# Altium integrated library Altium_WE-CBA (rev22d).IntLib: 88 symbols (part 2 of 2)
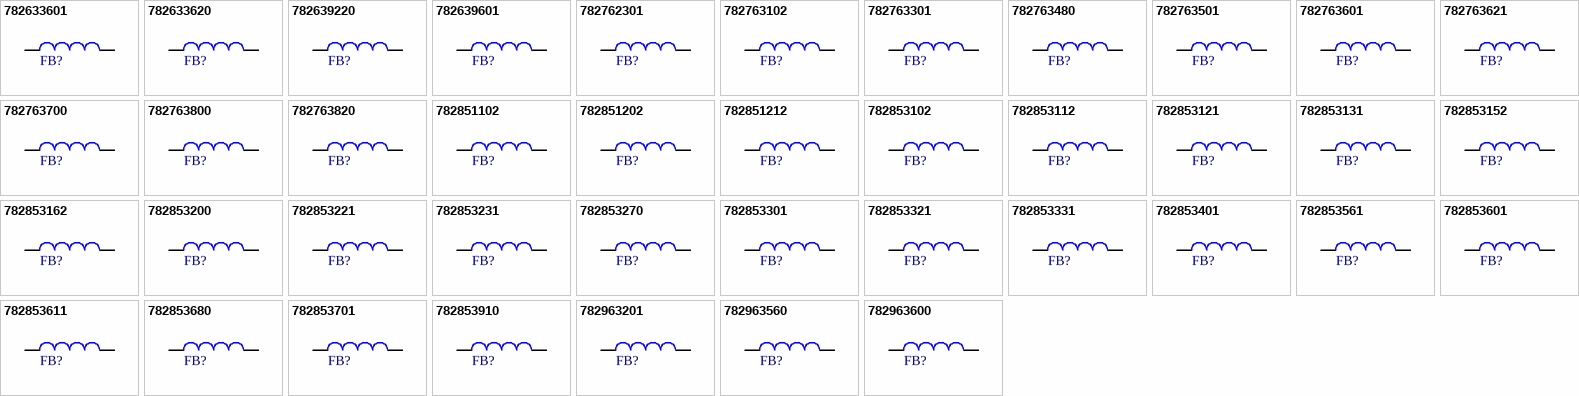
[diagram p3: symbols 782633601 to 782963600]

## 782851102
designator FB?, comment 1000Ohm  (value not drawn)
WE-CBA SMT EMI Suppression Ferrite Bead, size 0805, 1000Ohm, 0.3A; Manufacturer Part Number: 782851102; Manufacturer: Wurth Elektronik; Case/Size Code: 0805; DC Resistance Max: 0.35Ohm; Impedance Max: 1100Ohm; Type: High Speed; Category: Ferrites for PCB Assembly; Match Code: WE-CBA; ComponentLink1Description: Website Link; ComponentLink1URL: https://www.we-online.com/redexpert/article/782851102?ad; ComponentLink2Description: Datasheet Link; ComponentLink2URL: https://www.we-online.com/redexpert/spec/782851102?ad; Mount: Surface Mount; Operating Temperature Max: 125°C; Operating Temperature Min: -55°C; Packaging: Tape and Reel; Length: 2mm; Width: 1.2mm; Height: 0.9mm; Automotive: Yes; Impedance @100MHz: 1000Ohm; Rated Current: 0.3A
footprint WE-CBA_0805_L2W1.2H0.9_HF/HS/WB
simulation model 0805_782851102_1000ohm
pins: 1, 2

## 782851202
designator FB?, comment 2200Ohm  (value not drawn)
WE-CBA SMT EMI Suppression Ferrite Bead, size 0805, 2200Ohm, 0.2A; Manufacturer Part Number: 782851202; Manufacturer: Wurth Elektronik; Case/Size Code: 0805; DC Resistance Max: 0.45Ohm; Type: High Speed; Category: Ferrites for PCB Assembly; Match Code: WE-CBA; ComponentLink1Description: Website Link; ComponentLink1URL: https://www.we-online.com/redexpert/article/782851202?ad; ComponentLink2Description: Datasheet Link; ComponentLink2URL: https://www.we-online.com/redexpert/spec/782851202?ad; Mount: Surface Mount; Operating Temperature Max: 125°C; Operating Temperature Min: -55°C; Packaging: Tape and Reel; Length: 2mm; Width: 1.2mm; Height: 0.9mm; Automotive: Yes; Impedance @100MHz: 2200Ohm; Impedance Max: 2200Ohm; Rated Current: 0.2A
footprint WE-CBA_0805_L2W1.2H0.9_HF/HS/WB
simulation model 0805_782851202_2200ohm
pins: 1, 2

## 782851212
designator FB?, comment 2000Ohm  (value not drawn)
WE-CBA SMT EMI Suppression Ferrite Bead, size 0805, 2000Ohm, 0.4A; Manufacturer Part Number: 782851212; Manufacturer: Wurth Elektronik; Case/Size Code: 0805; DC Resistance Max: 0.42Ohm; Type: High Speed; Category: Ferrites for PCB Assembly; Match Code: WE-CBA; ComponentLink1Description: Website Link; ComponentLink1URL: https://www.we-online.com/redexpert/article/782851212?ad; ComponentLink2Description: Datasheet Link; ComponentLink2URL: https://www.we-online.com/redexpert/spec/782851212?ad; Mount: Surface Mount; Operating Temperature Max: 125°C; Operating Temperature Min: -55°C; Packaging: Tape and Reel; Length: 2mm; Width: 1.2mm; Height: 0.9mm; Automotive: Yes; Impedance @100MHz: 2000Ohm; Impedance Max: 2000Ohm; Rated Current: 0.4A
footprint WE-CBA_0805_L2W1.2H0.9_HF/HS/WB
simulation model 0805_782851212_2000ohm
pins: 1, 2

## 782853102
designator FB?, comment 1000Ohm  (value not drawn)
WE-CBA SMT EMI Suppression Ferrite Bead, size 0805, 1000Ohm, 1A; Manufacturer Part Number: 782853102; Manufacturer: Wurth Elektronik; Case/Size Code: 0805; DC Resistance Max: 0.3Ohm; Type: High Current; Category: Ferrites for PCB Assembly; Match Code: WE-CBA; ComponentLink1Description: Website Link; ComponentLink1URL: https://www.we-online.com/redexpert/article/782853102?ad; ComponentLink2Description: Datasheet Link; ComponentLink2URL: https://www.we-online.com/redexpert/spec/782853102?ad; Mount: Surface Mount; Operating Temperature Max: 125°C; Operating Temperature Min: -55°C; Packaging: Tape and Reel; Length: 2mm; Width: 1.2mm; Height: 0.9mm; Automotive: Yes; Impedance @100MHz: 1000Ohm; Impedance Max: 1000Ohm; Rated Current: 1A
footprint WE-CBA_0805_L2W1.2H0.9_HC
simulation model 0805_782853102_1000ohm
pins: 1, 2

## 782853112
designator FB?, comment 1100Ohm  (value not drawn)
WE-CBA SMT EMI Suppression Ferrite Bead, size 0805, 1100Ohm, 0.8A; Manufacturer Part Number: 782853112; Manufacturer: Wurth Elektronik; Case/Size Code: 0805; DC Resistance Max: 0.3Ohm; Impedance Max: 1400Ohm; Type: High Current; Category: Ferrites for PCB Assembly; Match Code: WE-CBA; ComponentLink1Description: Website Link; ComponentLink1URL: https://www.we-online.com/redexpert/article/782853112?ad; ComponentLink2Description: Datasheet Link; ComponentLink2URL: https://www.we-online.com/redexpert/spec/782853112?ad; Mount: Surface Mount; Operating Temperature Max: 125°C; Operating Temperature Min: -55°C; Packaging: Tape and Reel; Length: 2mm; Width: 1.2mm; Height: 0.9mm; Automotive: Yes; Impedance @100MHz: 1100Ohm; Rated Current: 0.8A
footprint WE-CBA_0805_L2W1.2H0.9_HC
simulation model 0805_782853112_1100ohm
pins: 1, 2

## 782853121
designator FB?, comment 120Ohm  (value not drawn)
WE-CBA SMT EMI Suppression Ferrite Bead, size 0805, 120Ohm, 2.5A; Manufacturer Part Number: 782853121; Manufacturer: Wurth Elektronik; Case/Size Code: 0805; DC Resistance Max: 0.035Ohm; Impedance Max: 180Ohm; Type: High Current; Category: Ferrites for PCB Assembly; Match Code: WE-CBA; ComponentLink1Description: Website Link; ComponentLink1URL: https://www.we-online.com/redexpert/article/782853121?ad; ComponentLink2Description: Datasheet Link; ComponentLink2URL: https://www.we-online.com/redexpert/spec/782853121?ad; Mount: Surface Mount; Operating Temperature Max: 125°C; Operating Temperature Min: -55°C; Packaging: Tape and Reel; Length: 2mm; Width: 1.2mm; Height: 0.9mm; Automotive: Yes; Impedance @100MHz: 120Ohm; Rated Current: 2.5A
footprint WE-CBA_0805_L2W1.2H0.9_HC
simulation model 0805_782853121_120ohm
pins: 1, 2

## 782853131
designator FB?, comment 120Ohm  (value not drawn)
WE-CBA SMT EMI Suppression Ferrite Bead, size 0805, 120Ohm, 3A; Manufacturer Part Number: 782853131; Manufacturer: Wurth Elektronik; Case/Size Code: 0805; DC Resistance Max: 0.03Ohm; Impedance Max: 180Ohm; Type: High Current; Category: Ferrites for PCB Assembly; Match Code: WE-CBA; ComponentLink1Description: Website Link; ComponentLink1URL: https://www.we-online.com/redexpert/article/782853131?ad; ComponentLink2Description: Datasheet Link; ComponentLink2URL: https://www.we-online.com/redexpert/spec/782853131?ad; Mount: Surface Mount; Operating Temperature Max: 125°C; Operating Temperature Min: -55°C; Packaging: Tape and Reel; Length: 2mm; Width: 1.2mm; Height: 0.9mm; Automotive: Yes; Impedance @100MHz: 120Ohm; Rated Current: 3A
footprint WE-CBA_0805_L2W1.2H0.9_HC
simulation model 0805_782853131_120ohm
pins: 1, 2

## 782853152
designator FB?, comment 1500Ohm  (value not drawn)
WE-CBA SMT EMI Suppression Ferrite Bead, size 0805, 1500Ohm, 0.7A; Manufacturer Part Number: 782853152; Manufacturer: Wurth Elektronik; Case/Size Code: 0805; DC Resistance Max: 0.35Ohm; Impedance Max: 1800Ohm; Type: High Current; Category: Ferrites for PCB Assembly; Match Code: WE-CBA; ComponentLink1Description: Website Link; ComponentLink1URL: https://www.we-online.com/redexpert/article/782853152?ad; ComponentLink2Description: Datasheet Link; ComponentLink2URL: https://www.we-online.com/redexpert/spec/782853152?ad; Mount: Surface Mount; Operating Temperature Max: 125°C; Operating Temperature Min: -55°C; Packaging: Tape and Reel; Length: 2mm; Width: 1.2mm; Height: 0.9mm; Automotive: Yes; Impedance @100MHz: 1500Ohm; Rated Current: 0.7A
footprint WE-CBA_0805_L2W1.2H0.9_HC
simulation model 0805_782853152_1500ohm
pins: 1, 2

## 782853162
designator FB?, comment 1500Ohm  (value not drawn)
WE-CBA SMT EMI Suppression Ferrite Bead, size 0805, 1500Ohm, 1A; Manufacturer Part Number: 782853162; Manufacturer: Wurth Elektronik; Case/Size Code: 0805; DC Resistance Max: 0.3Ohm; Impedance Max: 1800Ohm; Type: High Current; Category: Ferrites for PCB Assembly; Match Code: WE-CBA; ComponentLink1Description: Website Link; ComponentLink1URL: https://www.we-online.com/redexpert/article/782853162?ad; ComponentLink2Description: Datasheet Link; ComponentLink2URL: https://www.we-online.com/redexpert/spec/782853162?ad; Mount: Surface Mount; Operating Temperature Max: 125°C; Operating Temperature Min: -55°C; Packaging: Tape and Reel; Length: 2mm; Width: 1.2mm; Height: 0.9mm; Automotive: Yes; Impedance @100MHz: 1500Ohm; Rated Current: 1A
footprint WE-CBA_0805_L2W1.2H0.9_HC
simulation model 0805_782853162_1500ohm
pins: 1, 2

## 782853200
designator FB?, comment 20Ohm  (value not drawn)
WE-CBA SMT EMI Suppression Ferrite Bead, size 0805, 20Ohm, 5A; Manufacturer Part Number: 782853200; Manufacturer: Wurth Elektronik; Case/Size Code: 0805; DC Resistance Max: 0.008Ohm; Impedance Max: 35Ohm; Type: High Current; Category: Ferrites for PCB Assembly; Match Code: WE-CBA; ComponentLink1Description: Website Link; ComponentLink1URL: https://www.we-online.com/redexpert/article/782853200?ad; ComponentLink2Description: Datasheet Link; ComponentLink2URL: https://www.we-online.com/redexpert/spec/782853200?ad; Mount: Surface Mount; Operating Temperature Max: 125°C; Operating Temperature Min: -55°C; Packaging: Tape and Reel; Length: 2mm; Width: 1.2mm; Height: 0.9mm; Automotive: Yes; Impedance @100MHz: 20Ohm; Rated Current: 5A
footprint WE-CBA_0805_L2W1.2H0.9_HC
simulation model 0805_782853200_20ohm
pins: 1, 2

## 782853221
designator FB?, comment 220Ohm  (value not drawn)
WE-CBA SMT EMI Suppression Ferrite Bead, size 0805, 220Ohm, 2A; Manufacturer Part Number: 782853221; Manufacturer: Wurth Elektronik; Case/Size Code: 0805; DC Resistance Max: 0.05Ohm; Impedance Max: 290Ohm; Type: High Current; Category: Ferrites for PCB Assembly; Match Code: WE-CBA; ComponentLink1Description: Website Link; ComponentLink1URL: https://www.we-online.com/redexpert/article/782853221?ad; ComponentLink2Description: Datasheet Link; ComponentLink2URL: https://www.we-online.com/redexpert/spec/782853221?ad; Mount: Surface Mount; Operating Temperature Max: 125°C; Operating Temperature Min: -55°C; Packaging: Tape and Reel; Length: 2mm; Width: 1.2mm; Height: 0.9mm; Automotive: Yes; Impedance @100MHz: 220Ohm; Rated Current: 2A
footprint WE-CBA_0805_L2W1.2H0.9_HC
simulation model 0805_782853221_220ohm
pins: 1, 2

## 782853231
designator FB?, comment 220Ohm  (value not drawn)
WE-CBA SMT EMI Suppression Ferrite Bead, size 0805, 220Ohm, 3A; Manufacturer Part Number: 782853231; Manufacturer: Wurth Elektronik; Case/Size Code: 0805; DC Resistance Max: 0.05Ohm; Impedance Max: 330Ohm; Type: High Current; Category: Ferrites for PCB Assembly; Match Code: WE-CBA; ComponentLink1Description: Website Link; ComponentLink1URL: https://www.we-online.com/redexpert/article/782853231?ad; ComponentLink2Description: Datasheet Link; ComponentLink2URL: https://www.we-online.com/redexpert/spec/782853231?ad; Mount: Surface Mount; Operating Temperature Max: 125°C; Operating Temperature Min: -55°C; Packaging: Tape and Reel; Length: 2mm; Width: 1.2mm; Height: 0.9mm; Automotive: Yes; Impedance @100MHz: 220Ohm; Rated Current: 3A
footprint WE-CBA_0805_L2W1.2H0.9_HC
simulation model 0805_782853231_220ohm
pins: 1, 2

## 782853270
designator FB?, comment 27Ohm  (value not drawn)
WE-CBA SMT EMI Suppression Ferrite Bead, size 0805, 27Ohm, 4A; Manufacturer Part Number: 782853270; Manufacturer: Wurth Elektronik; Case/Size Code: 0805; DC Resistance Max: 0.015Ohm; Impedance Max: 45Ohm; Type: High Current; Category: Ferrites for PCB Assembly; Match Code: WE-CBA; ComponentLink1Description: Website Link; ComponentLink1URL: https://www.we-online.com/redexpert/article/782853270?ad; ComponentLink2Description: Datasheet Link; ComponentLink2URL: https://www.we-online.com/redexpert/spec/782853270?ad; Mount: Surface Mount; Operating Temperature Max: 125°C; Operating Temperature Min: -55°C; Packaging: Tape and Reel; Length: 2mm; Width: 1.2mm; Height: 0.9mm; Automotive: Yes; Impedance @100MHz: 27Ohm; Rated Current: 4A
footprint WE-CBA_0805_L2W1.2H0.9_HC
simulation model 0805_782853270_27ohm
pins: 1, 2

## 782853301
designator FB?, comment 300Ohm  (value not drawn)
WE-CBA SMT EMI Suppression Ferrite Bead, size 0805, 300Ohm, 3A; Manufacturer Part Number: 782853301; Manufacturer: Wurth Elektronik; Case/Size Code: 0805; DC Resistance Max: 0.05Ohm; Impedance Max: 350Ohm; Type: High Current; Category: Ferrites for PCB Assembly; Match Code: WE-CBA; ComponentLink1Description: Website Link; ComponentLink1URL: https://www.we-online.com/redexpert/article/782853301?ad; ComponentLink2Description: Datasheet Link; ComponentLink2URL: https://www.we-online.com/redexpert/spec/782853301?ad; Mount: Surface Mount; Operating Temperature Max: 125°C; Operating Temperature Min: -55°C; Packaging: Tape and Reel; Length: 2mm; Width: 1.2mm; Height: 0.9mm; Automotive: Yes; Impedance @100MHz: 300Ohm; Rated Current: 3A
footprint WE-CBA_0805_L2W1.2H0.9_HC
simulation model 0805_782853301_300ohm
pins: 1, 2

## 782853321
designator FB?, comment 320Ohm  (value not drawn)
WE-CBA SMT EMI Suppression Ferrite Bead, size 0805, 320Ohm, 2A; Manufacturer Part Number: 782853321; Manufacturer: Wurth Elektronik; Case/Size Code: 0805; DC Resistance Max: 0.05Ohm; Impedance Max: 370Ohm; Type: High Current; Category: Ferrites for PCB Assembly; Match Code: WE-CBA; ComponentLink1Description: Website Link; ComponentLink1URL: https://www.we-online.com/redexpert/article/782853321?ad; ComponentLink2Description: Datasheet Link; ComponentLink2URL: https://www.we-online.com/redexpert/spec/782853321?ad; Mount: Surface Mount; Operating Temperature Max: 125°C; Operating Temperature Min: -55°C; Packaging: Tape and Reel; Length: 2mm; Width: 1.2mm; Height: 0.9mm; Automotive: Yes; Impedance @100MHz: 320Ohm; Rated Current: 2A
footprint WE-CBA_0805_L2W1.2H0.9_HC
simulation model 0805_782853321_320ohm
pins: 1, 2

## 782853331
designator FB?, comment 330Ohm  (value not drawn)
WE-CBA SMT EMI Suppression Ferrite Bead, size 0805, 330Ohm, 3A; Manufacturer Part Number: 782853331; Manufacturer: Wurth Elektronik; Case/Size Code: 0805; DC Resistance Max: 0.05Ohm; Impedance Max: 375Ohm; Type: High Current; Category: Ferrites for PCB Assembly; Match Code: WE-CBA; ComponentLink1Description: Website Link; ComponentLink1URL: https://www.we-online.com/redexpert/article/782853331?ad; ComponentLink2Description: Datasheet Link; ComponentLink2URL: https://www.we-online.com/redexpert/spec/782853331?ad; Mount: Surface Mount; Operating Temperature Max: 125°C; Operating Temperature Min: -55°C; Packaging: Tape and Reel; Length: 2mm; Width: 1.2mm; Height: 0.9mm; Automotive: Yes; Impedance @100MHz: 330Ohm; Rated Current: 3A
footprint WE-CBA_0805_L2W1.2H0.9_HC
simulation model 0805_782853331_330ohm
pins: 1, 2

## 782853401
designator FB?, comment 400Ohm  (value not drawn)
WE-CBA SMT EMI Suppression Ferrite Bead, size 0805, 400Ohm, 0.3A; Manufacturer Part Number: 782853401; Manufacturer: Wurth Elektronik; Case/Size Code: 0805; DC Resistance Max: 0.3Ohm; Impedance Max: 500Ohm; Type: Wide Band; Category: Ferrites for PCB Assembly; Match Code: WE-CBA; ComponentLink1Description: Website Link; ComponentLink1URL: https://www.we-online.com/redexpert/article/782853401?ad; ComponentLink2Description: Datasheet Link; ComponentLink2URL: https://www.we-online.com/redexpert/spec/782853401?ad; Mount: Surface Mount; Operating Temperature Max: 125°C; Operating Temperature Min: -55°C; Packaging: Tape and Reel; Length: 2mm; Width: 1.2mm; Height: 0.9mm; Automotive: Yes; Impedance @100MHz: 400Ohm; Rated Current: 0.3A
footprint WE-CBA_0805_L2W1.2H0.9_HF/HS/WB
simulation model 0805_782853401_400ohm
pins: 1, 2

## 782853561
designator FB?, comment 560Ohm  (value not drawn)
WE-CBA SMT EMI Suppression Ferrite Bead, size 0805, 560Ohm, 1.5A; Manufacturer Part Number: 782853561; Manufacturer: Wurth Elektronik; Case/Size Code: 0805; DC Resistance Max: 0.1Ohm; Impedance Max: 600Ohm; Type: High Current; Category: Ferrites for PCB Assembly; Match Code: WE-CBA; ComponentLink1Description: Website Link; ComponentLink1URL: https://www.we-online.com/redexpert/article/782853561?ad; ComponentLink2Description: Datasheet Link; ComponentLink2URL: https://www.we-online.com/redexpert/spec/782853561?ad; Mount: Surface Mount; Operating Temperature Max: 125°C; Operating Temperature Min: -55°C; Packaging: Tape and Reel; Length: 2mm; Width: 1.2mm; Height: 0.9mm; Automotive: Yes; Impedance @100MHz: 560Ohm; Rated Current: 1.5A
footprint WE-CBA_0805_L2W1.2H0.9_HC
simulation model 0805_782853561_560ohm
pins: 1, 2

## 782853601
designator FB?, comment 600Ohm  (value not drawn)
WE-CBA SMT EMI Suppression Ferrite Bead, size 0805, 600Ohm, 0.5A; Manufacturer Part Number: 782853601; Manufacturer: Wurth Elektronik; Case/Size Code: 0805; DC Resistance Max: 0.3Ohm; Impedance Max: 700Ohm; Type: Wide Band; Category: Ferrites for PCB Assembly; Match Code: WE-CBA; ComponentLink1Description: Website Link; ComponentLink1URL: https://www.we-online.com/redexpert/article/782853601?ad; ComponentLink2Description: Datasheet Link; ComponentLink2URL: https://www.we-online.com/redexpert/spec/782853601?ad; Mount: Surface Mount; Operating Temperature Max: 125°C; Operating Temperature Min: -55°C; Packaging: Tape and Reel; Length: 2mm; Width: 1.2mm; Height: 0.9mm; Automotive: Yes; Impedance @100MHz: 600Ohm; Rated Current: 0.5A
footprint WE-CBA_0805_L2W1.2H0.9_HF/HS/WB
simulation model 0805_782853601_600ohm
pins: 1, 2

## 782853611
designator FB?, comment 600Ohm  (value not drawn)
WE-CBA SMT EMI Suppression Ferrite Bead, size 0805, 600Ohm, 2A; Manufacturer Part Number: 782853611; Manufacturer: Wurth Elektronik; Case/Size Code: 0805; DC Resistance Max: 0.11Ohm; Impedance Max: 700Ohm; Type: High Current; Category: Ferrites for PCB Assembly; Match Code: WE-CBA; ComponentLink1Description: Website Link; ComponentLink1URL: https://www.we-online.com/redexpert/article/782853611?ad; ComponentLink2Description: Datasheet Link; ComponentLink2URL: https://www.we-online.com/redexpert/spec/782853611?ad; Mount: Surface Mount; Operating Temperature Max: 125°C; Operating Temperature Min: -55°C; Packaging: Tape and Reel; Length: 2mm; Width: 1.2mm; Height: 0.9mm; Automotive: Yes; Impedance @100MHz: 600Ohm; Rated Current: 2A
footprint WE-CBA_0805_L2W1.2H0.9_HC
simulation model 0805_782853611_600ohm
pins: 1, 2

## 782853680
designator FB?, comment 68Ohm  (value not drawn)
WE-CBA SMT EMI Suppression Ferrite Bead, size 0805, 68Ohm, 3A; Manufacturer Part Number: 782853680; Manufacturer: Wurth Elektronik; Case/Size Code: 0805; DC Resistance Max: 0.025Ohm; Impedance Max: 110Ohm; Type: High Current; Category: Ferrites for PCB Assembly; Match Code: WE-CBA; ComponentLink1Description: Website Link; ComponentLink1URL: https://www.we-online.com/redexpert/article/782853680?ad; ComponentLink2Description: Datasheet Link; ComponentLink2URL: https://www.we-online.com/redexpert/spec/782853680?ad; Mount: Surface Mount; Operating Temperature Max: 125°C; Operating Temperature Min: -55°C; Packaging: Tape and Reel; Length: 2mm; Width: 1.2mm; Height: 0.9mm; Automotive: Yes; Impedance @100MHz: 68Ohm; Rated Current: 3A
footprint WE-CBA_0805_L2W1.2H0.9_HC
simulation model 0805_782853680_68ohm
pins: 1, 2

## 782853701
designator FB?, comment 700Ohm  (value not drawn)
WE-CBA SMT EMI Suppression Ferrite Bead, size 0805, 700Ohm, 1.5A; Manufacturer Part Number: 782853701; Manufacturer: Wurth Elektronik; Case/Size Code: 0805; DC Resistance Max: 0.1Ohm; Impedance Max: 730Ohm; Type: High Current; Category: Ferrites for PCB Assembly; Match Code: WE-CBA; ComponentLink1Description: Website Link; ComponentLink1URL: https://www.we-online.com/redexpert/article/782853701?ad; ComponentLink2Description: Datasheet Link; ComponentLink2URL: https://www.we-online.com/redexpert/spec/782853701?ad; Mount: Surface Mount; Operating Temperature Max: 125°C; Operating Temperature Min: -55°C; Packaging: Tape and Reel; Length: 2mm; Width: 1.2mm; Height: 0.9mm; Automotive: Yes; Impedance @100MHz: 700Ohm; Rated Current: 1.5A
footprint WE-CBA_0805_L2W1.2H0.9_HC
simulation model 0805_782853701_700ohm
pins: 1, 2

## 782853910
designator FB?, comment 91Ohm  (value not drawn)
WE-CBA SMT EMI Suppression Ferrite Bead, size 0805, 91Ohm, 2A; Manufacturer Part Number: 782853910; Manufacturer: Wurth Elektronik; Case/Size Code: 0805; DC Resistance Max: 0.06Ohm; Impedance Max: 105Ohm; Type: High Current; Category: Ferrites for PCB Assembly; Match Code: WE-CBA; ComponentLink1Description: Website Link; ComponentLink1URL: https://www.we-online.com/redexpert/article/782853910?ad; ComponentLink2Description: Datasheet Link; ComponentLink2URL: https://www.we-online.com/redexpert/spec/782853910?ad; Mount: Surface Mount; Operating Temperature Max: 125°C; Operating Temperature Min: -55°C; Packaging: Tape and Reel; Length: 2mm; Width: 1.2mm; Height: 0.9mm; Automotive: Yes; Impedance @100MHz: 91Ohm; Rated Current: 2A
footprint WE-CBA_0805_L2W1.2H0.9_HC
simulation model 0805_782853910_91ohm
pins: 1, 2

## 782963201
designator FB?, comment 1000Ohm  (value not drawn)
WE-CBA SMT EMI Suppression Ferrite Bead, size 1806, 1000Ohm, 1.5A; Manufacturer Part Number: 782963201; Manufacturer: Wurth Elektronik; Case/Size Code: 1806; DC Resistance Max: 0.09Ohm; Impedance Max: 1020Ohm; Type: High Current; Category: Ferrites for PCB Assembly; Match Code: WE-CBA; ComponentLink1Description: Website Link; ComponentLink1URL: https://www.we-online.com/redexpert/article/782963201?ad; ComponentLink2Description: Datasheet Link; ComponentLink2URL: https://www.we-online.com/redexpert/spec/782963201?ad; Mount: Surface Mount; Operating Temperature Max: 125°C; Operating Temperature Min: -55°C; Packaging: Tape and Reel; Length: 4.5mm; Width: 1.6mm; Height: 1.6mm; Automotive: Yes; Impedance @100MHz: 1000Ohm; Rated Current: 1.5A
footprint WE-CBA_1806_L4.5W1.6H1.6_HC
simulation model 1806_782963201_1000ohm
pins: 1, 2

## 782963560
designator FB?, comment 56Ohm  (value not drawn)
WE-CBA SMT EMI Suppression Ferrite Bead, size 1806, 56Ohm, 5A; Manufacturer Part Number: 782963560; Manufacturer: Wurth Elektronik; Case/Size Code: 1806; DC Resistance Max: 0.008Ohm; Impedance Max: 90Ohm; Type: High Current; Category: Ferrites for PCB Assembly; Match Code: WE-CBA; ComponentLink1Description: Website Link; ComponentLink1URL: https://www.we-online.com/redexpert/article/782963560?ad; ComponentLink2Description: Datasheet Link; ComponentLink2URL: https://www.we-online.com/redexpert/spec/782963560?ad; Mount: Surface Mount; Operating Temperature Max: 125°C; Operating Temperature Min: -55°C; Packaging: Tape and Reel; Length: 4.5mm; Width: 1.6mm; Height: 1.6mm; Automotive: Yes; Impedance @100MHz: 56Ohm; Rated Current: 5A
footprint WE-CBA_1806_L4.5W1.6H1.6_HC
simulation model 1806_782963560_56ohm
pins: 1, 2

## 782963600
designator FB?, comment 60Ohm  (value not drawn)
WE-CBA SMT EMI Suppression Ferrite Bead, size 1806, 60Ohm, 6A; Manufacturer Part Number: 782963600; Manufacturer: Wurth Elektronik; Case/Size Code: 1806; DC Resistance Max: 0.01Ohm; Impedance Max: 120Ohm; Type: High Current; Category: Ferrites for PCB Assembly; Match Code: WE-CBA; ComponentLink1Description: Website Link; ComponentLink1URL: https://www.we-online.com/redexpert/article/782963600?ad; ComponentLink2Description: Datasheet Link; ComponentLink2URL: https://www.we-online.com/redexpert/spec/782963600?ad; Mount: Surface Mount; Operating Temperature Max: 125°C; Operating Temperature Min: -55°C; Packaging: Tape and Reel; Length: 4.5mm; Width: 1.6mm; Height: 1.6mm; Automotive: Yes; Impedance @100MHz: 60Ohm; Rated Current: 6A
footprint WE-CBA_1806_L4.5W1.6H1.6_HC
simulation model 1806_782963600_60ohm
pins: 1, 2

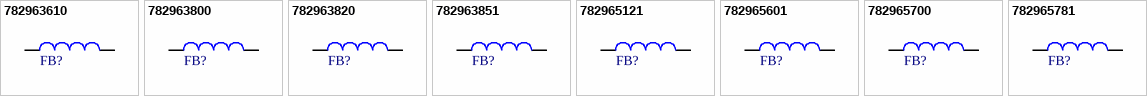
[diagram p2: symbols 782963610 to 782965781]

## 782963610
designator FB?, comment 60Ohm  (value not drawn)
WE-CBA SMT EMI Suppression Ferrite Bead, size 1806, 60Ohm, 6A; Manufacturer Part Number: 782963610; Manufacturer: Wurth Elektronik; Case/Size Code: 1806; DC Resistance Max: 0.008Ohm; Impedance Max: 120Ohm; Type: High Current; Category: Ferrites for PCB Assembly; Match Code: WE-CBA; ComponentLink1Description: Website Link; ComponentLink1URL: https://www.we-online.com/redexpert/article/782963610?ad; ComponentLink2Description: Datasheet Link; ComponentLink2URL: https://www.we-online.com/redexpert/spec/782963610?ad; Mount: Surface Mount; Operating Temperature Max: 125°C; Operating Temperature Min: -55°C; Packaging: Tape and Reel; Length: 4.5mm; Width: 1.6mm; Height: 1.6mm; Automotive: Yes; Impedance @100MHz: 60Ohm; Rated Current: 6A
footprint WE-CBA_1806_L4.5W1.6H1.6_HC
simulation model 1806_782963610_60ohm
pins: 1, 2

## 782963800
designator FB?, comment 80Ohm  (value not drawn)
WE-CBA SMT EMI Suppression Ferrite Bead, size 1806, 80Ohm, 3A; Manufacturer Part Number: 782963800; Manufacturer: Wurth Elektronik; Case/Size Code: 1806; DC Resistance Max: 0.04Ohm; Impedance Max: 140Ohm; Type: High Current; Category: Ferrites for PCB Assembly; Match Code: WE-CBA; ComponentLink1Description: Website Link; ComponentLink1URL: https://www.we-online.com/redexpert/article/782963800?ad; ComponentLink2Description: Datasheet Link; ComponentLink2URL: https://www.we-online.com/redexpert/spec/782963800?ad; Mount: Surface Mount; Operating Temperature Max: 125°C; Operating Temperature Min: -55°C; Packaging: Tape and Reel; Length: 4.5mm; Width: 1.6mm; Height: 1.6mm; Automotive: Yes; Impedance @100MHz: 80Ohm; Rated Current: 3A
footprint WE-CBA_1806_L4.5W1.6H1.6_HC
simulation model 1806_782963800_80ohm
pins: 1, 2

## 782963820
designator FB?, comment 82Ohm  (value not drawn)
WE-CBA SMT EMI Suppression Ferrite Bead, size 1806, 82Ohm, 3.5A; Manufacturer Part Number: 782963820; Manufacturer: Wurth Elektronik; Case/Size Code: 1806; DC Resistance Max: 0.02Ohm; Impedance Max: 110Ohm; Type: High Current; Category: Ferrites for PCB Assembly; Match Code: WE-CBA; ComponentLink1Description: Website Link; ComponentLink1URL: https://www.we-online.com/redexpert/article/782963820?ad; ComponentLink2Description: Datasheet Link; ComponentLink2URL: https://www.we-online.com/redexpert/spec/782963820?ad; Mount: Surface Mount; Operating Temperature Max: 125°C; Operating Temperature Min: -55°C; Packaging: Tape and Reel; Length: 4.5mm; Width: 1.6mm; Height: 1.6mm; Automotive: Yes; Impedance @100MHz: 82Ohm; Rated Current: 3.5A
footprint WE-CBA_1806_L4.5W1.6H1.6_HC
simulation model 1806_782963820_82ohm
pins: 1, 2

## 782963851
designator FB?, comment 850Ohm  (value not drawn)
WE-CBA SMT EMI Suppression Ferrite Bead, size 1806, 850Ohm, 1.5A; Manufacturer Part Number: 782963851; Manufacturer: Wurth Elektronik; Case/Size Code: 1806; DC Resistance Max: 0.1Ohm; Impedance Max: 1250Ohm; Type: High Current; Category: Ferrites for PCB Assembly; Match Code: WE-CBA; ComponentLink1Description: Website Link; ComponentLink1URL: https://www.we-online.com/redexpert/article/782963851?ad; ComponentLink2Description: Datasheet Link; ComponentLink2URL: https://www.we-online.com/redexpert/spec/782963851?ad; Mount: Surface Mount; Operating Temperature Max: 125°C; Operating Temperature Min: -55°C; Packaging: Tape and Reel; Length: 4.5mm; Width: 1.6mm; Height: 1.6mm; Automotive: Yes; Impedance @100MHz: 850Ohm; Rated Current: 1.5A
footprint WE-CBA_1806_L4.5W1.6H1.6_HC
simulation model 1806_782963851_850ohm
pins: 1, 2

## 782965121
designator FB?, comment 120Ohm  (value not drawn)
WE-CBA SMT EMI Suppression Ferrite Bead, size 1812, 120Ohm, 3A; Manufacturer Part Number: 782965121; Manufacturer: Wurth Elektronik; Case/Size Code: 1812; DC Resistance Max: 0.04Ohm; Impedance Max: 190Ohm; Type: High Current; Category: Ferrites for PCB Assembly; Match Code: WE-CBA; ComponentLink1Description: Website Link; ComponentLink1URL: https://www.we-online.com/redexpert/article/782965121?ad; ComponentLink2Description: Datasheet Link; ComponentLink2URL: https://www.we-online.com/redexpert/spec/782965121?ad; Mount: Surface Mount; Operating Temperature Max: 125°C; Operating Temperature Min: -55°C; Packaging: Tape and Reel; Length: 4.5mm; Width: 3.2mm; Height: 1.5mm; Automotive: Yes; Impedance @100MHz: 120Ohm; Rated Current: 3A
footprint WE-CBA_1812_L4.5W3.2H1.5_HC
simulation model 1812_782965121_120ohm
pins: 1, 2

## 782965601
designator FB?, comment 600Ohm  (value not drawn)
WE-CBA SMT EMI Suppression Ferrite Bead, size 1812, 600Ohm, 3A; Manufacturer Part Number: 782965601; Manufacturer: Wurth Elektronik; Case/Size Code: 1812; DC Resistance Max: 0.04Ohm; Impedance Max: 900Ohm; Type: High Current; Category: Ferrites for PCB Assembly; Match Code: WE-CBA; ComponentLink1Description: Website Link; ComponentLink1URL: https://www.we-online.com/redexpert/article/782965601?ad; ComponentLink2Description: Datasheet Link; ComponentLink2URL: https://www.we-online.com/redexpert/spec/782965601?ad; Mount: Surface Mount; Operating Temperature Max: 125°C; Operating Temperature Min: -55°C; Packaging: Tape and Reel; Length: 4.5mm; Width: 3.2mm; Height: 1.5mm; Automotive: Yes; Impedance @100MHz: 600Ohm; Rated Current: 3A
footprint WE-CBA_1812_L4.5W3.2H1.5_HC
simulation model 1812_782965601_600ohm
pins: 1, 2

## 782965700
designator FB?, comment 70Ohm  (value not drawn)
WE-CBA SMT EMI Suppression Ferrite Bead, size 1812, 70Ohm, 6A; Manufacturer Part Number: 782965700; Manufacturer: Wurth Elektronik; Case/Size Code: 1812; DC Resistance Max: 0.008Ohm; Impedance Max: 120Ohm; Type: High Current; Category: Ferrites for PCB Assembly; Match Code: WE-CBA; ComponentLink1Description: Website Link; ComponentLink1URL: https://www.we-online.com/redexpert/article/782965700?ad; ComponentLink2Description: Datasheet Link; ComponentLink2URL: https://www.we-online.com/redexpert/spec/782965700?ad; Mount: Surface Mount; Operating Temperature Max: 125°C; Operating Temperature Min: -55°C; Packaging: Tape and Reel; Length: 4.5mm; Width: 3.2mm; Height: 1.5mm; Automotive: Yes; Impedance @100MHz: 70Ohm; Rated Current: 6A
footprint WE-CBA_1812_L4.5W3.2H1.5_HC
simulation model 1812_782965700_70ohm
pins: 1, 2

## 782965781
designator FB?, comment 780Ohm  (value not drawn)
WE-CBA SMT EMI Suppression Ferrite Bead, size 1812, 780Ohm, 3A; Manufacturer Part Number: 782965781; Manufacturer: Wurth Elektronik; Case/Size Code: 1812; DC Resistance Max: 0.04Ohm; Impedance Max: 1300Ohm; Type: High Current; Category: Ferrites for PCB Assembly; Match Code: WE-CBA; ComponentLink1Description: Website Link; ComponentLink1URL: https://www.we-online.com/redexpert/article/782965781?ad; ComponentLink2Description: Datasheet Link; ComponentLink2URL: https://www.we-online.com/redexpert/spec/782965781?ad; Mount: Surface Mount; Operating Temperature Max: 125°C; Operating Temperature Min: -55°C; Packaging: Tape and Reel; Length: 4.5mm; Width: 3.2mm; Height: 1.5mm; Automotive: Yes; Impedance @100MHz: 780Ohm; Rated Current: 3A
footprint WE-CBA_1812_L4.5W3.2H1.5_HC
simulation model 1812_782965781_780ohm
pins: 1, 2